# EAGLE library part ADCS7477 (library butter)
TI ADCS7477 10 bit 1MSPS ADC 5V 10mW Digikey <http://www.digikey.com/product-detail/en/ADCS7477AIMF%2FNOPB/ADCS7477AIMF%2FNOPBTR-ND/568478>
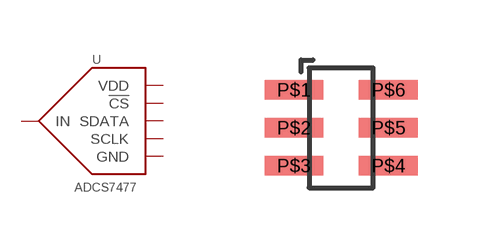
[diagram p0: symbol with the pads of SOT-23-6; footprint SOT-23-6]

Designator prefix U

## ADCS7477  [SOT-23-6]
P$1  VDD
P$2  GND
P$3  IN
P$4  SCLK
P$5  SDATA
P$6  !CS

## Footprint SOT-23-6 (pad centres in mm)
smd 1.473 x 0.483: P$1 -1.181,0.95; P$2 -1.181,0; P$3 -1.181,-0.95; P$4 1.181,-0.95; P$5 1.181,0; P$6 1.181,0.95